# EAGLE library part 649006227222 (library Wire-to-Board (rev18a))
WR-MPC4-4.20mm Male Dual Row Angled Header with Mounting Pegs,6 pins=>Code : Con_WTB_MPC4_2_PCB_649006227222 <http://katalog.we-online.de/media/thumbs2/eican/thb_Con_WTB_MPC4_2_PCB_6490xx227222_pf2.jpg> Details see: http://katalog.we-online.de/en/em/MPC4_4_20_MALE_DUAL_ROW_ANGLED_HEADER_W_MOUNTING_PEGS_6490XX2272222 Created 2014-06-06, Karrer Zheng 2014 (C) Würth Elektronik
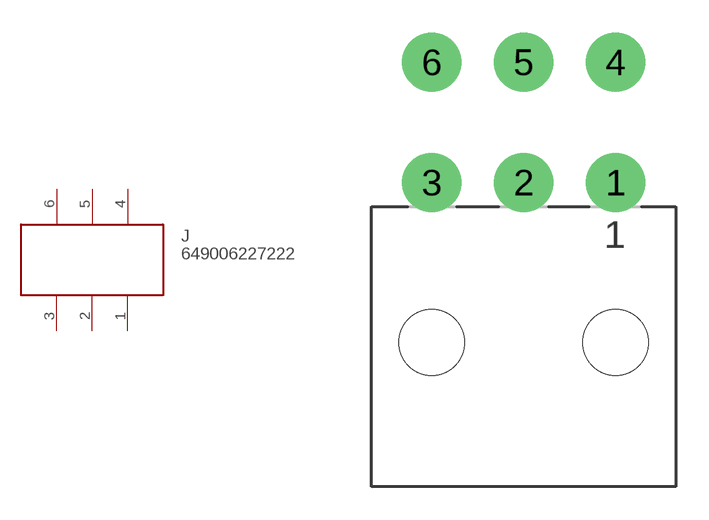
[diagram p278: symbol with the pads of 649006227222; footprint 649006227222]

Designator prefix J

## 649006227222  [649006227222]
1  1  pas
2  2  pas
3  3  pas
4  4  pas
5  5  pas
6  6  pas

## Footprint 649006227222 (pad centres in mm)
WR-MPC4-4.20mm Male Dual Row Angled Header with Mounting Pegs,6 pins
drill 1.8: 1 4.2,7.3; 2 0,7.3; 3 -4.2,7.3; 4 4.2,12.8; 5 0,12.8; 6 -4.2,12.8
hole 3 at -4.2,0
hole 3 at 4.2,0